# Altium schematic symbol library GC-Schlib1.SchLib: 38 symbols (part 1 of 2)
Pins are listed as number, name and electrical type; pins without a type are passive.

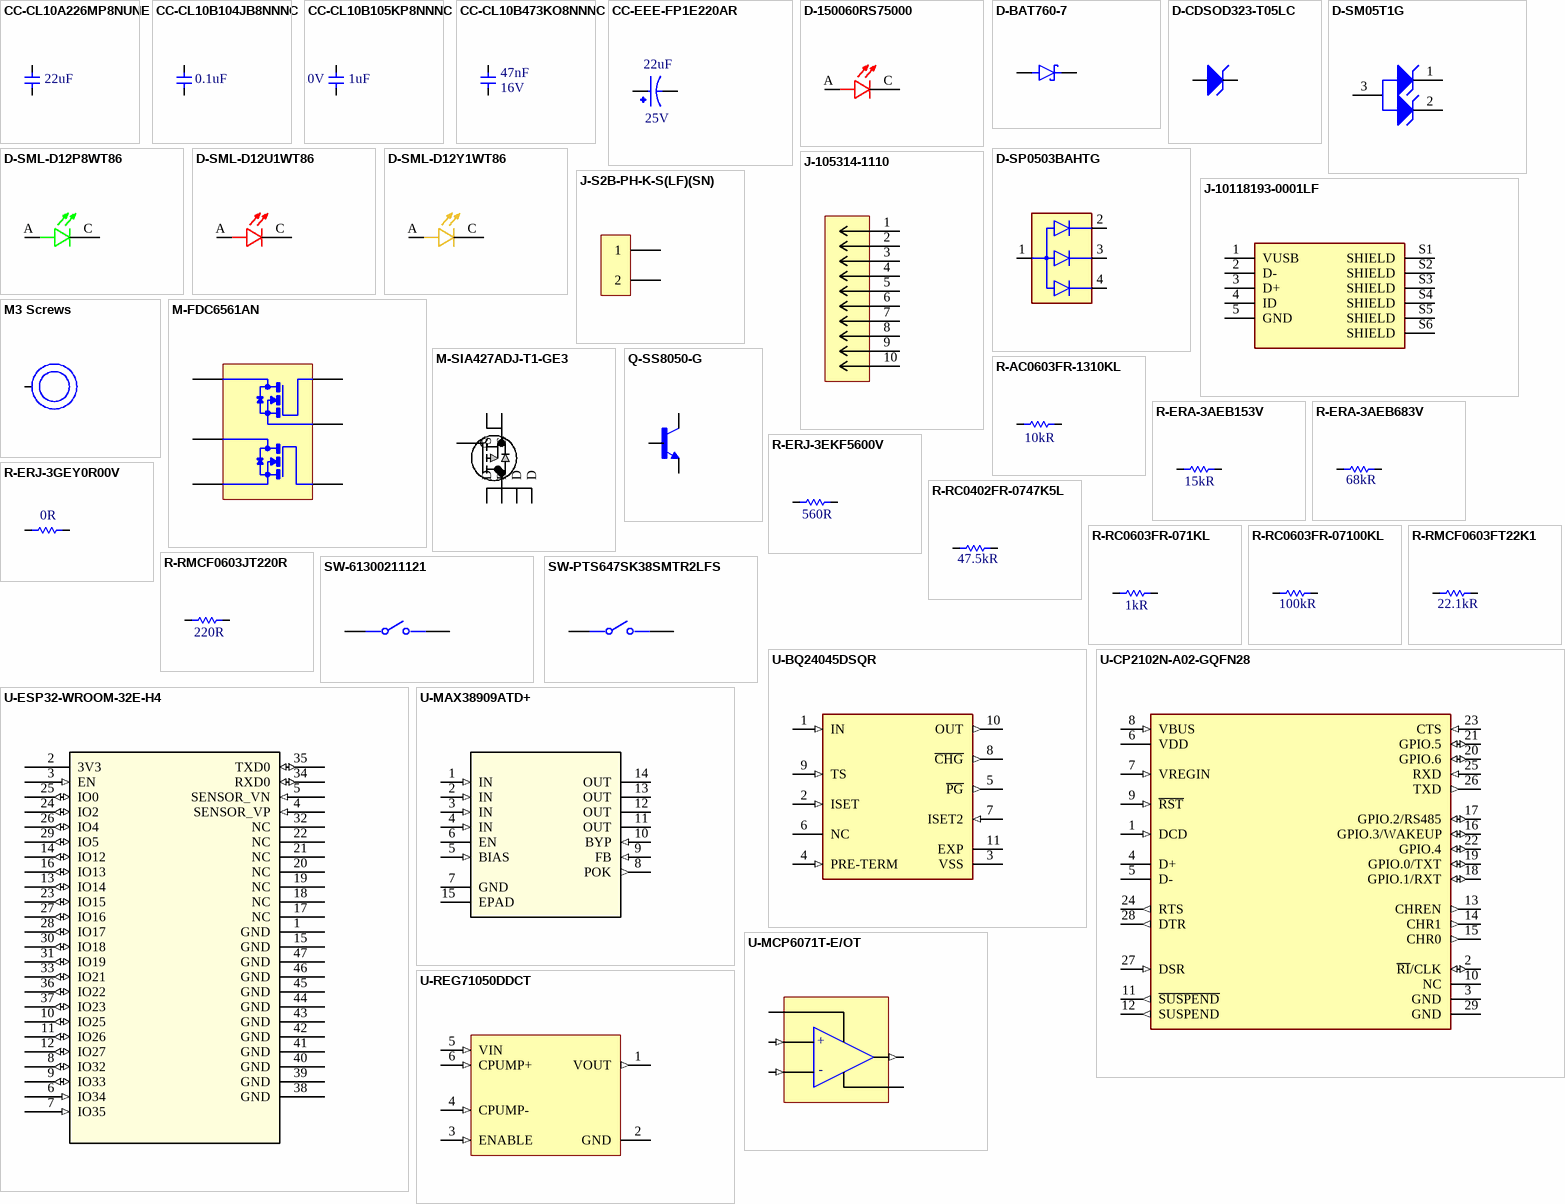
[diagram p0: symbols CC-CL10A226MP8NUNE to U-REG71050DDCT]

## CC-CL10A226MP8NUNE
designator C?, comment Capacitance: 22uF  (hidden comment: CL10A226MP8NUNE)
Ceramic Capacitor, Multilayer, Ceramic, 10V, 20% +Tol, 20% -Tol, X5R, 15% TC, 22uF, Surface Mount, 0603; Manufacturer: Samsung; Multilayer: Yes; Supplier 1: Avnet; Supplier Part Number 1: CL10A226MP8NUNE; Manufacturer Part Number: CL10A226MP8NUNE; RoHS: Yes; Category: Ceramic Capacitors; Stock: 4766000; Pricing: 3000=0.02125, 6000=0.02076, 12000=0.02027, 18000=0.01978, 24000=0.01929 (USD); Mount: Surface Mount; Number of Pins: 2; Dielectric Material: Ceramic; Package Shape: Rectangular; Size Code: 0603; Terminal Finish: Nickel; Min Operating Temperature: -55°C; Max Operating Temperature: 85°C; JESD-609 Code: e3; Capacitor Type: Ceramic; Negative Tolerance: 20%; Package Style: SMTMeter; Packaging: Tape and Reel; Positive Tolerance: 20%; Rated DC Voltage (URdc): 10V; Temperature Characteristics Code: X5R; Termination: Wraparound; Length: 1.6mm; Width: 0.8mm; Height: 1.05mm; Reach SVHC Compliant: Yes; RoHS Compliant: Yes; ComponentLink1URL: https://datasheet.ciiva.com:443/pdfs/VipMasterIC/IC/SEMS/SEMS-S-A0008525088/SEMS-S-A0008525102-1.pdf?src-supplier=IHS+Markit; ComponentLink1Description: https://datasheet.ciiva.com:443/pdfs/VipMasterIC/IC/SEMS/SEMS-S-A0008525088/SEMS-S-A0008525102-1.pdf?src-supplier=IHS+Markit; ComponentLink2URL: https://datasheet.ciiva.com/25711/cl10a226mp8nune-25711532.pdf?src-supplier=Digikey; ComponentLink2Description: https://datasheet.ciiva.com/25711/cl10a226mp8nune-25711532.pdf?src-supplier=Digikey; ComponentLink3URL: https://datasheet.ciiva.com/26838/getdatasheetpartid-746477-26838370.pdf?src-supplier=Verical; ComponentLink3Description: https://datasheet.ciiva.com/26838/getdatasheetpartid-746477-26838370.pdf?src-supplier=Verical
footprint FP-1206-L_3_2_0_15-W_1_6-IPC_B
footprint FP-1206-L_3_2_0_15-W_1_6-MFG
footprint FP-1206-L_3_2_0_15-W_1_6-IPC_A
footprint FP-1206-L_3_2_0_15-W_1_6-IPC_C
footprint 0603 - C
pins: 1, 2

## CC-CL10B104JB8NNNC
designator C?, comment Capacitance: 0.1uF  (hidden comment: CL10B104JB8NNNC)
Ceramic Capacitor, Multilayer, Ceramic, 50V, 5% +Tol, 5% -Tol, X7R, 15% TC, 0.1uF, Surface Mount, 0603; Manufacturer: Samsung; Multilayer: Yes; Supplier 1: Avnet; Supplier Part Number 1: CL10B104JB8NNNC; Manufacturer Part Number: CL10B104JB8NNNC; RoHS: Yes; Category: Ceramic Capacitors; Stock: 4000; Pricing: 4000=0.00545, 8000=0.00532, 16000=0.0052, 24000=0.00507, 32000=0.00495 (USD); Mount: Surface Mount; Number of Pins: 2; Dielectric Material: Ceramic; Package Shape: Rectangular; Size Code: 0603; Terminal Finish: Nickel; Min Operating Temperature: -55°C; Max Operating Temperature: 125°C; JESD-609 Code: e3; Capacitor Type: Ceramic; Negative Tolerance: 5%; Package Style: SMTMeter; Packaging: Tape and Reel; Positive Tolerance: 5%; Rated DC Voltage (URdc): 50V; Temperature Characteristics Code: X7R; Termination: Wraparound; Length: 1.6mm; Width: 0.8mm; Height: 0.8mm; Reach SVHC Compliant: Yes; RoHS Compliant: Yes; ComponentLink1URL: https://datasheet.ciiva.com:443/pdfs/VipMasterIC/IC/SEMS/SEMS-S-A0008384515/SEMS-S-A0008873313-1.pdf?src-supplier=IHS+Markit; ComponentLink1Description: https://datasheet.ciiva.com:443/pdfs/VipMasterIC/IC/SEMS/SEMS-S-A0008384515/SEMS-S-A0008873313-1.pdf?src-supplier=IHS+Markit; ComponentLink2URL: https://datasheet.ciiva.com/16498/cl10b104jb8nnnc-16498485.pdf?src-supplier=Future+Electronics; ComponentLink2Description: https://datasheet.ciiva.com/16498/cl10b104jb8nnnc-16498485.pdf?src-supplier=Future+Electronics; ComponentLink3URL: https://datasheet.ciiva.com/26838/getdatasheetpartid-359321-26838402.pdf?src-supplier=Verical; ComponentLink3Description: https://datasheet.ciiva.com/26838/getdatasheetpartid-359321-26838402.pdf?src-supplier=Verical; ComponentLink4URL: https://datasheet.ciiva.com/25793/cl10b104jb8nnnc-25793394.pdf?src-supplier=Digikey; ComponentLink4Description: https://datasheet.ciiva.com/25793/cl10b104jb8nnnc-25793394.pdf?src-supplier=Digikey; ComponentLink5URL: https://datasheet.ciiva.com/29199/456613-da-01-en-vs-kondensator-0603-29199008.pdf?src-supplier=Conrad; ComponentLink5Description: https://datasheet.ciiva.com/29199/456613-da-01-en-vs-kondensator-0603-29199008.pdf?src-supplier=Conrad
footprint 0603 - C
pins: 1, 2

## CC-CL10B105KP8NNNC
designator C?, comment Rated DC Voltage (URdc): 10V  Capacitance: 1uF  (hidden comment: CL10B105KP8NNNC)
Ceramic Capacitor, Multilayer, Ceramic, 10V, 10% +Tol, 10% -Tol, X7R, 15% TC, 1uF, Surface Mount, 0603; Manufacturer: Samsung; Multilayer: Yes; Supplier 1: Avnet; Supplier Part Number 1: CL10B105KP8NNNC; Manufacturer Part Number: CL10B105KP8NNNC; RoHS: Yes; Category: Ceramic Capacitors; Stock: 168000; Pricing: 4000=0.00532, 8000=0.0052, 16000=0.00508, 24000=0.00496, 32000=0.00484 (USD); Mount: Surface Mount; Number of Pins: 2; Dielectric Material: Ceramic; Package Shape: Rectangular; Size Code: 0603; Terminal Finish: Nickel; Min Operating Temperature: -55°C; Max Operating Temperature: 125°C; Termination: Wraparound; JESD-609 Code: e3; Capacitor Type: Ceramic; Negative Tolerance: 10%; Package Style: SMTMeter; Packaging: Tape and Reel; Positive Tolerance: 10%; Temperature Characteristics Code: X7R; Length: 1.6mm; Width: 0.8mm; Height: 0.9mm; Reach SVHC Compliant: Yes; RoHS Compliant: Yes; ComponentLink1URL: https://datasheet.ciiva.com:443/pdfs/VipMasterIC/IC/SEMS/SEMS-S-A0008526420/SEMS-S-A0008526450-1.pdf?src-supplier=IHS+Markit; ComponentLink1Description: https://datasheet.ciiva.com:443/pdfs/VipMasterIC/IC/SEMS/SEMS-S-A0008526420/SEMS-S-A0008526450-1.pdf?src-supplier=IHS+Markit; ComponentLink2URL: https://datasheet.ciiva.com/25788/cl10b105kp8nnnc-25788304.pdf?src-supplier=Digikey; ComponentLink2Description: https://datasheet.ciiva.com/25788/cl10b105kp8nnnc-25788304.pdf?src-supplier=Digikey; ComponentLink3URL: https://datasheet.ciiva.com/16396/cl10b105kp8nnnc-16396970.pdf?src-supplier=Future+Electronics; ComponentLink3Description: https://datasheet.ciiva.com/16396/cl10b105kp8nnnc-16396970.pdf?src-supplier=Future+Electronics; ComponentLink4URL: https://datasheet.ciiva.com/26838/getdatasheetpartid-358410-26838426.pdf?src-supplier=Verical; ComponentLink4Description: https://datasheet.ciiva.com/26838/getdatasheetpartid-358410-26838426.pdf?src-supplier=Verical
footprint FP-1206-L_3_2_0_15-W_1_6-IPC_B
footprint FP-1206-L_3_2_0_15-W_1_6-MFG
footprint FP-1206-L_3_2_0_15-W_1_6-IPC_A
footprint FP-1206-L_3_2_0_15-W_1_6-IPC_C
footprint 0603 - C
pins: 1, 2

## CC-CL10B473KO8NNNC
designator C?, comment Rated DC Voltage (URdc): 16V  Capacitance: 47nF  (hidden comment: CL10B473KO8NNNC)
Ceramic Capacitor, Multilayer, Ceramic, 16V, 10% +Tol, 10% -Tol, X7R, 15% TC, 0.047uF, Surface Mount, 0603; Manufacturer: Samsung; Multilayer: Yes; Supplier 1: Avnet; Supplier Part Number 1: CL10B473KO8NNNC; Manufacturer Part Number: CL10B473KO8NNNC; RoHS: Yes; Category: Ceramic Capacitors; Stock: 4000; Pricing: 4000=0.00536, 8000=0.00524, 16000=0.00511, 24000=0.00499, 32000=0.00487 (USD); Mount: Surface Mount; Number of Pins: 2; Dielectric Material: Ceramic; Package Shape: Rectangular; Size Code: 0603; Terminal Finish: Nickel; Min Operating Temperature: -55°C; Max Operating Temperature: 125°C; JESD-609 Code: e3; Capacitor Type: Ceramic; Negative Tolerance: 10%; Packaging: Tape and Reel; Positive Tolerance: 10%; Temperature Characteristics Code: X7R; Termination: Wraparound; Package Style: SMTMeter; Length: 1.6mm; Width: 0.8mm; Height: 0.8mm; Reach SVHC Compliant: Yes; RoHS Compliant: Yes; ComponentLink1URL: https://datasheet.ciiva.com:443/pdfs/VipMasterIC/IC/SEMS/SEMS-S-A0008521219/SEMS-S-A0008521235-1.pdf?src-supplier=IHS+Markit; ComponentLink1Description: https://datasheet.ciiva.com:443/pdfs/VipMasterIC/IC/SEMS/SEMS-S-A0008521219/SEMS-S-A0008521235-1.pdf?src-supplier=IHS+Markit; ComponentLink2URL: https://datasheet.ciiva.com/15195/getdatasheetpartid-354053-15195766.pdf?src-supplier=Verical; ComponentLink2Description: https://datasheet.ciiva.com/15195/getdatasheetpartid-354053-15195766.pdf?src-supplier=Verical
footprint FP-1206-L_3_2_0_15-W_1_6-IPC_B
footprint FP-1206-L_3_2_0_15-W_1_6-MFG
footprint FP-1206-L_3_2_0_15-W_1_6-IPC_A
footprint FP-1206-L_3_2_0_15-W_1_6-IPC_C
footprint 0603 - C
pins: 1, 2

## CC-EEE-FP1E220AR
designator C?, comment Rated DC Voltage (URdc): 25V  Capacitance: 22uF  (hidden comment: EEE-FP1E220AR)
Aluminum Electrolytic Capacitor, Polarized, Aluminum (wet), 25V, 20% +Tol, 20% -Tol, 22uF, Surface Mount, 2121; Manufacturer: Panasonic; Manufacturer Series: FP; Dielectric Material: Aluminium; ESR (Equivalent Series Resistance): 360mR; Leakage Current: 5.5uA; Ripple Current: 240mA; Tan Delta: 0.14; Supplier 1: Mouser; Supplier Part Number 1: 667-EEE-FP1E220AR; Manufacturer Part Number: EEE-FP1E220AR; RoHS: Yes; Category: Aluminum Electrolytic Capacitors; Stock: 28900; Pricing: 1=0.5, 10=0.271, 50=0.271, 100=0.175, 1000=0.134, 10000=0.114 (USD); Mount: Surface Mount; Number of Pins: 2; Package Shape: Cylindrical; Size Code: 2121; Terminal Finish: Tin; Min Operating Temperature: -55°C; Max Operating Temperature: 105°C; JESD-609 Code: e3,e6; Polarity: Polarized; Capacitor Type: Aluminium; Negative Tolerance: 20%; Package Style: SMTMeter; Packaging: Tape and Reel; Positive Tolerance: 20%; Series: EEE-FP(LF REFLOW); Termination: Flat; Length: 6.5mm; Width: 5.3mm; Height: 5.8mm; Reach SVHC Compliant: Yes; RoHS Compliant: Yes; ComponentLink1URL: https://datasheet.ciiva.com:443/pdfs/VipMasterIC/IC/PANA/PANA-S-A0009615249/PANA-S-A0009615249-1.pdf?src-supplier=IHS+Markit; ComponentLink1Description: https://datasheet.ciiva.com:443/pdfs/VipMasterIC/IC/PANA/PANA-S-A0009615249/PANA-S-A0009615249-1.pdf?src-supplier=IHS+Markit; ComponentLink2URL: https://datasheet.ciiva.com/48523/fp-eng-tds-48523749.pdf?src-supplier=Distrelec; ComponentLink2Description: https://datasheet.ciiva.com/48523/fp-eng-tds-48523749.pdf?src-supplier=Distrelec; ComponentLink3URL: https://datasheet.ciiva.com/16390/aba0000ce114-16390486.pdf?src-supplier=Future+Electronics; ComponentLink3Description: https://datasheet.ciiva.com/16390/aba0000ce114-16390486.pdf?src-supplier=Future+Electronics; ComponentLink4URL: https://datasheet.ciiva.com/15166/getdatasheetpartid-178535-15166251.pdf?src-supplier=Verical; ComponentLink4Description: https://datasheet.ciiva.com/15166/getdatasheetpartid-178535-15166251.pdf?src-supplier=Verical
footprint FP-1206-L_3_2_0_15-W_1_6-IPC_B
footprint FP-1206-L_3_2_0_15-W_1_6-MFG
footprint FP-1206-L_3_2_0_15-W_1_6-IPC_A
footprint FP-1206-L_3_2_0_15-W_1_6-IPC_C
footprint CC-25SVPF47M
pins: 1, 2

## D-150060RS75000
designator D?, comment 150060RS75000  (value not drawn)
Single Color LED, Red, Water Clear, 1.1mm; Manufacturer: Wurth Electronics; Shape: Rectangular; Forward Current-Max: 30mA; Luminous Intensity-Nom: 250mcd; Number of Functions: 1; Viewing Angle: 140°; Overall Height: 0.7mm; Supplier 1: Newark; Supplier Part Number 1: 95W3795; Manufacturer Part Number: 150060RS75000; RoHS: Yes; Category: LEDs; Stock: 32730; Pricing: 1=0.172, 10=0.168, 25=0.166, 50=0.163, 100=0.142 (USD); Mount: Surface Mount; Number of Pins: 2; Color: Red; Min Operating Temperature: -40°C; Max Operating Temperature: 85°C; Lens Style: WATER CLEAR; Optoelectronic Device Type: SINGLE COLOR LED; Packaging: Tape and Reel; Size: 1.1mm; Terminal Pitch: 1.6mm; Reach SVHC Compliant: Yes; RoHS Compliant: Yes; ComponentLink1URL: https://datasheet.ciiva.com:443/pdfs/VipMasterIC/IC/MIDC/MIDC-S-A0007768849/MIDC-S-A0007768849-1.pdf?src-supplier=IHS+Markit; ComponentLink1Description: https://datasheet.ciiva.com:443/pdfs/VipMasterIC/IC/MIDC/MIDC-S-A0007768849/MIDC-S-A0007768849-1.pdf?src-supplier=IHS+Markit; ComponentLink2URL: https://datasheet.ciiva.com/29563/150060rs75000-29563040.pdf?src-supplier=Digikey; ComponentLink2Description: https://datasheet.ciiva.com/29563/150060rs75000-29563040.pdf?src-supplier=Digikey; ComponentLink3URL: https://datasheet.ciiva.com/29279/759428-da-01-en-chipled-0603-w-kl-rot-150060rs75000-29279196.pdf?src-supplier=Conrad; ComponentLink3Description: https://datasheet.ciiva.com/29279/759428-da-01-en-chipled-0603-w-kl-rot-150060rs75000-29279196.pdf?src-supplier=Conrad
footprint FP-1206-L_3_2_0_15-W_1_6-IPC_B
footprint FP-1206-L_3_2_0_15-W_1_6-MFG
footprint FP-1206-L_3_2_0_15-W_1_6-IPC_A
footprint FP-1206-L_3_2_0_15-W_1_6-IPC_C
footprint 0603
pins: A, C

## D-BAT760-7
designator D?  (value not drawn)
Rectifier Diode, Schottky, 1 Phase, 1 Element, 1A, 30V V(RRM), Silicon; Manufacturer: Diodes; Package Body Material: Plastic; Additional Feature: HIGH RELIABILITY; Forward Voltage-Max (VF): 270mV; Non-rep Pk Forward Current-Max: 5.5A; Number of Elements: 1; Max Power Dissipation: 235mW; Time @ Peak Reflow Temperature-Max (s): 40s; Qualification Status: Not Qualified; Supplier 1: Future Electronics; Supplier Part Number 1: 4017860; Manufacturer Part Number: BAT760-7; RoHS: Yes; Category: Rectifier Diodes; Stock: 81000; Pricing: 3000=0.0527, 9000=0.0507, 15000=0.0498, 45000=0.048, 75000=0.0464 (USD); Number of Pins: 2; Package Shape: Rectangular; Diode Element Material: SILICON; Terminal Finish: Tin; Min Operating Temperature: -65°C; Max Operating Temperature: 125°C; JESD-30 Code: R-PDSO-G2; Package Style: SMALL OUTLINEMeter; Surface Mount: Yes; Technology: SCHOTTKY; Terminal Form: Gull Wing; Terminal Position: DUAL; JESD-609 Code: e3; Diode Type: RECTIFIER; Moisture Sensitivity Level: 1; Max Output Current: 1A; Peak Reflow Temperature (Cel): 260°C; Rep Pk Reverse Voltage-Max: 30V; Reach SVHC Compliant: Yes; RoHS Compliant: Yes; ComponentLink1URL: https://datasheet.ciiva.com:443/pdfs/VipMasterIC/IC/DIOD/DIOD-S-A0004140720/DIOD-S-A0004140720-1.pdf?src-supplier=IHS+Markit; ComponentLink1Description: https://datasheet.ciiva.com:443/pdfs/VipMasterIC/IC/DIOD/DIOD-S-A0004140720/DIOD-S-A0004140720-1.pdf?src-supplier=IHS+Markit; ComponentLink2URL: https://datasheet.ciiva.com/1178/ds30498-1178033.pdf?src-supplier=Element14; ComponentLink2Description: https://datasheet.ciiva.com/1178/ds30498-1178033.pdf?src-supplier=Element14; ComponentLink3URL: https://datasheet.ciiva.com/4715/ds30498-63155-4715521.pdf?src-supplier=Mouser; ComponentLink3Description: https://datasheet.ciiva.com/4715/ds30498-63155-4715521.pdf?src-supplier=Mouser; ComponentLink4URL: https://datasheet.ciiva.com/8301/ds30498-8301400.pdf?src-supplier=Avnet; ComponentLink4Description: https://datasheet.ciiva.com/8301/ds30498-8301400.pdf?src-supplier=Avnet; ComponentLink5URL: https://datasheet.ciiva.com/22695/1670989-22695799.pdf?src-supplier=Element14; ComponentLink5Description: https://datasheet.ciiva.com/22695/1670989-22695799.pdf?src-supplier=Element14; ComponentLink6URL: https://datasheet.ciiva.com/914/ds30498-914552.pdf?src-supplier=Digikey; ComponentLink6Description: https://datasheet.ciiva.com/914/ds30498-914552.pdf?src-supplier=Digikey; ComponentLink7URL: https://datasheet.ciiva.com/914/ds30498-914553.pdf?src-supplier=Digikey; ComponentLink7Description: https://datasheet.ciiva.com/914/ds30498-914553.pdf?src-supplier=Digikey; ComponentLink8URL: https://datasheet.ciiva.com/914/ds30498-914551.pdf?src-supplier=Digikey; ComponentLink8Description: https://datasheet.ciiva.com/914/ds30498-914551.pdf?src-supplier=Digikey
footprint FP-1206-L_3_2_0_15-W_1_6-IPC_B
footprint FP-1206-L_3_2_0_15-W_1_6-MFG
footprint FP-1206-L_3_2_0_15-W_1_6-IPC_A
footprint FP-1206-L_3_2_0_15-W_1_6-IPC_C
footprint SOD2513X120N
pins: A, C K

## D-CDSOD323-T05LC
designator D?, comment CDSOD323-T05LC
Trans Voltage Suppressor Diode, 250W, 5V V(RWM), Bidirectional, 2 Element, Silicon; Manufacturer: Bourns; Package Body Material: Plastic; Number of Elements: 2; Min Breakdown Voltage: 6V; Qualification Status: Not Qualified; Supplier 1: Avnet; Supplier Part Number 1: CDSOD323-T05LC; Manufacturer Part Number: CDSOD323-T05LC; RoHS: Yes; Category: TVS Diodes; Stock: 12000; Pricing: 3000=0.2698, 6000=0.2641, 12000=0.2584, 18000=0.2527, 24000=0.247, 30000=0.2413, 300000=0.2375 (USD); Number of Pins: 2; Diode Element Material: SILICON; Package Shape: Rectangular; Terminal Finish: Tin; Polarity: Bidirectional; Diode Type: TRANS VOLTAGE SUPPRESSOR; Package Style: SMALL OUTLINEMeter; Rep Pk Reverse Voltage-Max: 5V; Surface Mount: Yes; Technology: AVALANCHE; Terminal Form: Gull Wing; Terminal Position: DUAL; JESD-609 Code: e3; JESD-30 Code: R-PDSO-G2; Moisture Sensitivity Level: 1; Non-rep Peak Rev Power Dis-Max: 250W; Reach SVHC Compliant: Yes; RoHS Compliant: Yes; ComponentLink1URL: https://datasheet.ciiva.com:443/pdfs/VipMasterIC/IC/BOUR/BOUR-S-A0008993686/BOUR-S-A0008993686-1.pdf?src-supplier=IHS+Markit; ComponentLink1Description: https://datasheet.ciiva.com:443/pdfs/VipMasterIC/IC/BOUR/BOUR-S-A0008993686/BOUR-S-A0008993686-1.pdf?src-supplier=IHS+Markit; ComponentLink2URL: https://datasheet.ciiva.com/22695/1845295-22695042.pdf?src-supplier=Element14; ComponentLink2Description: https://datasheet.ciiva.com/22695/1845295-22695042.pdf?src-supplier=Element14; ComponentLink3URL: https://datasheet.ciiva.com/15186/getdatasheetpartid-697240-15186741.pdf?src-supplier=Verical; ComponentLink3Description: https://datasheet.ciiva.com/15186/getdatasheetpartid-697240-15186741.pdf?src-supplier=Verical; ComponentLink4URL: https://datasheet.ciiva.com/6578/cdsod323-txxlc-6578183.pdf?src-supplier=Digikey; ComponentLink4Description: https://datasheet.ciiva.com/6578/cdsod323-txxlc-6578183.pdf?src-supplier=Digikey; ComponentLink5URL: https://datasheet.ciiva.com/1276/1845295-1276679.pdf?src-supplier=Element14; ComponentLink5Description: https://datasheet.ciiva.com/1276/1845295-1276679.pdf?src-supplier=Element14; ComponentLink6URL: https://datasheet.ciiva.com/11193/cdsod323-txxlc-11193757.pdf?src-supplier=Avnet; ComponentLink6Description: https://datasheet.ciiva.com/11193/cdsod323-txxlc-11193757.pdf?src-supplier=Avnet; ComponentLink7URL: https://datasheet.ciiva.com/6578/cdsod323-txxlc-6578182.pdf?src-supplier=Digikey; ComponentLink7Description: https://datasheet.ciiva.com/6578/cdsod323-txxlc-6578182.pdf?src-supplier=Digikey; ComponentLink8URL: https://datasheet.ciiva.com/6578/cdsod323-txxlc-6578181.pdf?src-supplier=Digikey; ComponentLink8Description: https://datasheet.ciiva.com/6578/cdsod323-txxlc-6578181.pdf?src-supplier=Digikey; ComponentLink9URL: https://datasheet.ciiva.com/48686/001055445-da-01-en-tvs-diode-cdsod323-t05lc-sod323-bou-48686300.pdf?src-supplier=Conrad; ComponentLink9Description: https://datasheet.ciiva.com/48686/001055445-da-01-en-tvs-diode-cdsod323-t05lc-sod323-bou-48686300.pdf?src-supplier=Conrad
footprint FP-1206-L_3_2_0_15-W_1_6-IPC_B
footprint FP-1206-L_3_2_0_15-W_1_6-MFG
footprint FP-1206-L_3_2_0_15-W_1_6-IPC_A
footprint FP-1206-L_3_2_0_15-W_1_6-IPC_C
footprint SOD2513X120N
pins: A, C

## D-SM05T1G
designator D?, comment SM05T1G
Trans Voltage Suppressor Diode, 300W, 5V V(RWM), Unidirectional, 2 Element, Silicon, TO-236AB; Manufacturer: ON Semiconductor; Package Body Material: Plastic; Number of Elements: 2; Max Breakdown Voltage: 7.3V; Min Breakdown Voltage: 6.2V; Breakdown Voltage-Nom: 6.7V; Clamping Voltage-Max: 9.8V; Max Power Dissipation: 225mW; Time @ Peak Reflow Temperature-Max (s): 40s; Reference Standard: IEC-61000-4-2; Qualification Status: Not Qualified; Supplier 1: Future Electronics; Supplier Part Number 1: 4992673; Manufacturer Part Number: SM05T1G; RoHS: Yes; Category: ESD and Circuit Protection ICs; Stock: 120000; Pricing: 3000=0.0553, 9000=0.0532, 15000=0.0523, 45000=0.0503, 75000=0.0486 (USD); Number of Pins: 3; Package Shape: Rectangular; Terminal Finish: Tin; Diode Element Material: SILICON; Min Operating Temperature: -55°C; Max Operating Temperature: 150°C; JESD-609 Code: e3; JESD-30 Code: R-PDSO-G3; Moisture Sensitivity Level: 1; Package Style: SMALL OUTLINEMeter; Surface Mount: Yes; Terminal Form: Gull Wing; Terminal Position: DUAL; Polarity: Unidirectional; Diode Type: TRANS VOLTAGE SUPPRESSOR; Non-rep Peak Rev Power Dis-Max: 300W; Rep Pk Reverse Voltage-Max: 5V; Technology: AVALANCHE; Peak Reflow Temperature (Cel): 260°C; Reach SVHC Compliant: Yes; RoHS Compliant: Yes; JEDEC-95 Code: TO-236AB; ComponentLink1URL: https://datasheet.ciiva.com:443/pdfs/VipMasterIC/IC/ONSM/ONSM-S-A0006325830/ONSM-S-A0006325830-1.pdf?src-supplier=IHS+Markit; ComponentLink1Description: https://datasheet.ciiva.com:443/pdfs/VipMasterIC/IC/ONSM/ONSM-S-A0006325830/ONSM-S-A0006325830-1.pdf?src-supplier=IHS+Markit; ComponentLink2URL: https://datasheet.ciiva.com/11193/sm12t1-d-11193492.pdf?src-supplier=Avnet; ComponentLink2Description: https://datasheet.ciiva.com/11193/sm12t1-d-11193492.pdf?src-supplier=Avnet; ComponentLink3URL: https://datasheet.ciiva.com/4508/sm12t1-d-196357-4508787.pdf?src-supplier=Mouser; ComponentLink3Description: https://datasheet.ciiva.com/4508/sm12t1-d-196357-4508787.pdf?src-supplier=Mouser; ComponentLink4URL: https://datasheet.ciiva.com/15143/getdatasheetpartid-69008-15143230.pdf?src-supplier=Verical; ComponentLink4Description: https://datasheet.ciiva.com/15143/getdatasheetpartid-69008-15143230.pdf?src-supplier=Verical; ComponentLink5URL: https://datasheet.ciiva.com/22661/1708353-22661174.pdf?src-supplier=Element14; ComponentLink5Description: https://datasheet.ciiva.com/22661/1708353-22661174.pdf?src-supplier=Element14; ComponentLink6URL: https://datasheet.ciiva.com/16199/sm12t1-d-16199269.pdf?src-supplier=Future+Electronics; ComponentLink6Description: https://datasheet.ciiva.com/16199/sm12t1-d-16199269.pdf?src-supplier=Future+Electronics; ComponentLink7URL: https://datasheet.ciiva.com/11193/sm12t1-d-11193495.pdf?src-supplier=Avnet; ComponentLink7Description: https://datasheet.ciiva.com/11193/sm12t1-d-11193495.pdf?src-supplier=Avnet; ComponentLink8URL: https://datasheet.ciiva.com/339/sm05t1-d-339929.pdf?src-supplier=Digikey; ComponentLink8Description: https://datasheet.ciiva.com/339/sm05t1-d-339929.pdf?src-supplier=Digikey; ComponentLink9URL: https://datasheet.ciiva.com/339/sm05t1-d-339930.pdf?src-supplier=Digikey; ComponentLink9Description: https://datasheet.ciiva.com/339/sm05t1-d-339930.pdf?src-supplier=Digikey; ComponentLink10URL: https://datasheet.ciiva.com/339/sm05t1-d-339928.pdf?src-supplier=Digikey; ComponentLink10Description: https://datasheet.ciiva.com/339/sm05t1-d-339928.pdf?src-supplier=Digikey
footprint FP-1206-L_3_2_0_15-W_1_6-IPC_B
footprint FP-1206-L_3_2_0_15-W_1_6-MFG
footprint FP-1206-L_3_2_0_15-W_1_6-IPC_A
footprint FP-1206-L_3_2_0_15-W_1_6-IPC_C
footprint ONSC-SOT-23-3-318-08_V (SOT23, 3-Leads, Body 2.92x1.3mm, Pitch 0.95mm)
pins: 1 K1, 2 K2, 3 A

## D-SML-D12P8WT86
designator D?, comment SML-D12P8WT86  (value not drawn)
Single Color LED, Pure Green, Diffused Milky White, 1.2mm; Manufacturer: Rohm; Shape: Rectangular; Forward Current-Max: 20mA; Luminous Intensity-Nom: 6.3mcd; Number of Functions: 1; Reverse Voltage-Max: 5V; Overall Height: 0.55mm; Supplier 1: Mouser; Supplier Part Number 1: 755-SML-D12P8WT86; Manufacturer Part Number: SML-D12P8WT86; RoHS: Yes; Category: LEDs; Stock: 44852; Pricing: 1=0.24, 10=0.133, 50=0.133, 100=0.057, 1000=0.045, 10000=0.035 (USD); Mount: Surface Mount; Number of Pins: 2; Color: Green; Color@wavelength: Green; Terminal Finish: Gold; Min Operating Temperature: -40°C; Max Operating Temperature: 85°C; JESD-609 Code: e4; Lens Style: Diffused; Optoelectronic Device Type: SINGLE COLOR LED; Packaging: Tape and Reel; Size: 1.2mm; Terminal Pitch: 1.65mm; Reach SVHC Compliant: Yes; RoHS Compliant: Yes; ComponentLink1URL: https://datasheet.ciiva.com:443/pdfs/VipMasterIC/IC/ROHM/ROHMS10041/ROHMS10041-1.pdf?src-supplier=IHS+Markit; ComponentLink1Description: https://datasheet.ciiva.com:443/pdfs/VipMasterIC/IC/ROHM/ROHMS10041/ROHMS10041-1.pdf?src-supplier=IHS+Markit; ComponentLink2URL: https://datasheet.ciiva.com/2110/sml-d1-2110417.pdf?src-supplier=Digikey; ComponentLink2Description: https://datasheet.ciiva.com/2110/sml-d1-2110417.pdf?src-supplier=Digikey; ComponentLink3URL: https://datasheet.ciiva.com/16488/rohm20sml-d12p8wt86-16488100.pdf?src-supplier=Future+Electronics; ComponentLink3Description: https://datasheet.ciiva.com/16488/rohm20sml-d12p8wt86-16488100.pdf?src-supplier=Future+Electronics; ComponentLink4URL: https://datasheet.ciiva.com/2110/sml-d1-2110419.pdf?src-supplier=Digikey; ComponentLink4Description: https://datasheet.ciiva.com/2110/sml-d1-2110419.pdf?src-supplier=Digikey; ComponentLink5URL: https://datasheet.ciiva.com/3161/sml-d1-3161420.pdf?src-supplier=Avnet; ComponentLink5Description: https://datasheet.ciiva.com/3161/sml-d1-3161420.pdf?src-supplier=Avnet; ComponentLink6URL: https://datasheet.ciiva.com/2110/sml-d1-2110418.pdf?src-supplier=Digikey; ComponentLink6Description: https://datasheet.ciiva.com/2110/sml-d1-2110418.pdf?src-supplier=Digikey
footprint FP-1206-L_3_2_0_15-W_1_6-IPC_B
footprint FP-1206-L_3_2_0_15-W_1_6-MFG
footprint FP-1206-L_3_2_0_15-W_1_6-IPC_A
footprint FP-1206-L_3_2_0_15-W_1_6-IPC_C
footprint D-SML-D12U1WT86
pins: A, C

## D-SML-D12U1WT86
designator D?, comment SML-D12U1WT86  (value not drawn)
Single Color LED, Red, Milky White, 1.2mm; Manufacturer: Rohm; Shape: Rectangular; Forward Current-Max: 20mA; Luminous Intensity-Nom: 63mcd; Number of Functions: 1; Overall Height: 0.55mm; Supplier 1: Mouser; Supplier Part Number 1: 755-SML-D12U1WT86; Manufacturer Part Number: SML-D12U1WT86; RoHS: Yes; Category: LEDs; Stock: 135229; Pricing: 1=0.21, 10=0.11, 50=0.11, 100=0.059, 1000=0.059, 10000=0.05 (USD); Mount: Surface Mount; Number of Pins: 2; Color: Red; Min Operating Temperature: -40°C; Max Operating Temperature: 85°C; Lens Style: MILKY WHITE; Optoelectronic Device Type: SINGLE COLOR LED; Packaging: Tape and Reel; Size: 1.2mm; Terminal Pitch: 1.65mm; Reach SVHC Compliant: Yes; RoHS Compliant: Yes; ComponentLink1URL: https://datasheet.ciiva.com:443/pdfs/VipMasterIC/IC/ROHM/ROHM-S-A0002134492/ROHM-S-A0002134492-1.pdf?src-supplier=IHS+Markit; ComponentLink1Description: https://datasheet.ciiva.com:443/pdfs/VipMasterIC/IC/ROHM/ROHM-S-A0002134492/ROHM-S-A0002134492-1.pdf?src-supplier=IHS+Markit; ComponentLink2URL: https://www.rohm.com/datasheet/SML-D12U1W?src-supplier=Digikey; ComponentLink2Description: https://www.rohm.com/datasheet/SML-D12U1W?src-supplier=Digikey
footprint FP-1206-L_3_2_0_15-W_1_6-IPC_B
footprint FP-1206-L_3_2_0_15-W_1_6-MFG
footprint FP-1206-L_3_2_0_15-W_1_6-IPC_A
footprint FP-1206-L_3_2_0_15-W_1_6-IPC_C
footprint D-SML-D12U1WT86
pins: A, C

## D-SML-D12Y1WT86
designator D?, comment SML-D12Y1WT86  (value not drawn)
Single Color LED, Yellow, Milky White, 1.2mm; Manufacturer: Rohm; Shape: Rectangular; Forward Current-Max: 20mA; Luminous Intensity-Nom: 100mcd; Number of Functions: 1; Overall Height: 0.55mm; Supplier 1: Mouser; Supplier Part Number 1: 755-SML-D12Y1WT86; Manufacturer Part Number: SML-D12Y1WT86; RoHS: Yes; Category: LEDs; Stock: 42109; Pricing: 1=0.36, 10=0.192, 50=0.192, 100=0.085, 1000=0.066, 10000=0.044 (USD); Mount: Surface Mount; Number of Pins: 2; Color: Yellow; Min Operating Temperature: -40°C; Max Operating Temperature: 85°C; Lens Style: MILKY WHITE; Optoelectronic Device Type: SINGLE COLOR LED; Packaging: Tape and Reel; Size: 1.2mm; Terminal Pitch: 1.65mm; Reach SVHC Compliant: Yes; RoHS Compliant: Yes; ComponentLink1URL: https://datasheet.ciiva.com:443/pdfs/VipMasterIC/IC/ROHM/ROHM-S-A0006508755/ROHM-S-A0006508755-1.pdf?src-supplier=IHS+Markit; ComponentLink1Description: https://datasheet.ciiva.com:443/pdfs/VipMasterIC/IC/ROHM/ROHM-S-A0006508755/ROHM-S-A0006508755-1.pdf?src-supplier=IHS+Markit; ComponentLink2URL: https://www.rohm.com/datasheet/SML-D12Y1W?src-supplier=Digikey; ComponentLink2Description: https://www.rohm.com/datasheet/SML-D12Y1W?src-supplier=Digikey
footprint FP-1206-L_3_2_0_15-W_1_6-IPC_B
footprint FP-1206-L_3_2_0_15-W_1_6-MFG
footprint FP-1206-L_3_2_0_15-W_1_6-IPC_A
footprint FP-1206-L_3_2_0_15-W_1_6-IPC_C
footprint D-SML-D12U1WT86
pins: A, C

## D-SP0503BAHTG
designator D?, comment SP0503BAHTG
Trans Voltage Suppressor Diode, 5.5V V(RWM), Unidirectional, 3 Element, Silicon, TO-253AA; Manufacturer: Littelfuse; Package Body Material: Plastic; Clamping Voltage-Max: 6.8V; Number of Elements: 3; Max Power Dissipation: 225mW; Time @ Peak Reflow Temperature-Max (s): 30s; Qualification Status: Not Qualified; Supplier 1: Future Electronics; Supplier Part Number 1: 8638553; Manufacturer Part Number: SP0503BAHTG; RoHS: Yes; Category: TVS Diodes; Stock: 105000; Pricing: 3000=0.32, 6000=0.315, 9000=0.31, 12000=0.31, 15000=0.3 (USD); Number of Pins: 4; Diode Element Material: SILICON; Package Shape: Rectangular; Terminal Finish: Tin; JESD-609 Code: e3; Polarity: Unidirectional; Diode Type: TRANS VOLTAGE SUPPRESSOR; JESD-30 Code: R-PDSO-G4; Moisture Sensitivity Level: 1; Package Style: SMALL OUTLINEMeter; Peak Reflow Temperature (Cel): 260°C; Rep Pk Reverse Voltage-Max: 5.5V; Surface Mount: Yes; Technology: AVALANCHE; Terminal Form: Gull Wing; Terminal Position: DUAL; Reach SVHC Compliant: Yes; RoHS Compliant: Yes; ComponentLink1URL: https://datasheet.ciiva.com:443/pdfs/VipMasterIC/IC/LFSI/LFSI-S-A0009001026/LFSI-S-A0009001026-1.pdf?src-supplier=IHS+Markit; ComponentLink1Description: https://datasheet.ciiva.com:443/pdfs/VipMasterIC/IC/LFSI/LFSI-S-A0009001026/LFSI-S-A0009001026-1.pdf?src-supplier=IHS+Markit; ComponentLink2URL: https://datasheet.ciiva.com/15143/getdatasheetpartid-116020-15143550.pdf?src-supplier=Verical; ComponentLink2Description: https://datasheet.ciiva.com/15143/getdatasheetpartid-116020-15143550.pdf?src-supplier=Verical; ComponentLink3URL: https://datasheet.ciiva.com/7650/526672-7650894.pdf?src-supplier=Element14; ComponentLink3Description: https://datasheet.ciiva.com/7650/526672-7650894.pdf?src-supplier=Element14; ComponentLink4URL: https://datasheet.ciiva.com/8062/littefuse-spa-sp050x-8062422.pdf?src-supplier=Element14; ComponentLink4Description: https://datasheet.ciiva.com/8062/littefuse-spa-sp050x-8062422.pdf?src-supplier=Element14; ComponentLink5URL: https://datasheet.ciiva.com/22697/1911798-22697942.pdf?src-supplier=Element14; ComponentLink5Description: https://datasheet.ciiva.com/22697/1911798-22697942.pdf?src-supplier=Element14; ComponentLink6URL: https://datasheet.ciiva.com/4509/sp05x-leadfree-4509162.pdf?src-supplier=Mouser; ComponentLink6Description: https://datasheet.ciiva.com/4509/sp05x-leadfree-4509162.pdf?src-supplier=Mouser; ComponentLink7URL: https://datasheet.ciiva.com/332/sp05xxba-332551.pdf?src-supplier=Digikey; ComponentLink7Description: https://datasheet.ciiva.com/332/sp05xxba-332551.pdf?src-supplier=Digikey; ComponentLink8URL: https://datasheet.ciiva.com/332/sp05xxba-332552.pdf?src-supplier=Digikey; ComponentLink8Description: https://datasheet.ciiva.com/332/sp05xxba-332552.pdf?src-supplier=Digikey; ComponentLink9URL: https://datasheet.ciiva.com/332/sp05xxba-332550.pdf?src-supplier=Digikey; ComponentLink9Description: https://datasheet.ciiva.com/332/sp05xxba-332550.pdf?src-supplier=Digikey; ComponentLink10URL: https://datasheet.ciiva.com/16449/sp05xxba-16449463.pdf?src-supplier=Future+Electronics; ComponentLink10Description: https://datasheet.ciiva.com/16449/sp05xxba-16449463.pdf?src-supplier=Future+Electronics
footprint FP-1206-L_3_2_0_15-W_1_6-IPC_B
footprint FP-1206-L_3_2_0_15-W_1_6-MFG
footprint FP-1206-L_3_2_0_15-W_1_6-IPC_A
footprint FP-1206-L_3_2_0_15-W_1_6-IPC_C
footprint SOT143
pins: 1, 2, 3, 4

## J-105314-1110
designator J?, comment 105314-1110
Rectangular Power Connector, 10 Contact(s), Male, Solder Terminal; Manufacturer: Molex; Connector Type: Power,Rectangular; Supplier 1: Mouser; Supplier Part Number 1: 538-105314-1110; Manufacturer Part Number: 105314-1110; RoHS: Yes; Category: Headers and Wire Housings; Stock: 2000; Pricing: 1=2.31, 10=1.96, 50=1.96, 100=1.72, 1000=1.37, 10000=1.2 (USD); Reach SVHC Compliant: Yes; RoHS Compliant: Yes; ComponentLink1URL: https://www.molex.com:443/molex/products/datasheet.jsp?part=active%2f1053141110_PCB_HEADERS.xml&src-supplier=IHS+Markit; ComponentLink1Description: https://www.molex.com:443/molex/products/datasheet.jsp?part=active%2f1053141110_PCB_HEADERS.xml&src-supplier=IHS+Markit; ComponentLink2URL: https://www.molex.com/pdm_docs/ps/PS-105300-100-001.pdf?src-supplier=Digikey; ComponentLink2Description: https://www.molex.com/pdm_docs/ps/PS-105300-100-001.pdf?src-supplier=Digikey
footprint FP-1206-L_3_2_0_15-W_1_6-IPC_B
footprint FP-1206-L_3_2_0_15-W_1_6-MFG
footprint FP-1206-L_3_2_0_15-W_1_6-IPC_A
footprint FP-1206-L_3_2_0_15-W_1_6-IPC_C
footprint CON_1053141110
footprint temp
pins: 1, 2, 3, 4, 5, 6, 7, 8, 9, 10

## J-10118193-0001LF
designator J?, comment 10118193-0001LF
FCI Right Angle Surface Mount Mount Female USB Connector; 100 V ac; 1.8A; Manufacturer: Amphenol ICC / FCI; Supplier 1: Avnet; Supplier Part Number 1: 67T2259; Manufacturer Part Number: 10118193-0001LF; RoHS: No; Category: USB Connectors; Stock: 12269; Pricing: 1=0.466, 25=0.361, 100=0.326, 250=0.312, 500=0.299 (USD); ComponentLink1URL: http://uk.rs-online.com/webdocs/1450/0900766b814507f1.pdf?src-supplier=Rs; ComponentLink1Description: http://uk.rs-online.com/webdocs/1450/0900766b814507f1.pdf?src-supplier=Rs; ComponentLink2URL: https://cdn.amphenol-icc.com/media/wysiwyg/files/documentation/datasheet/inputoutput/io_usb_micro.pdf?src-supplier=Avnet; ComponentLink2Description: https://cdn.amphenol-icc.com/media/wysiwyg/files/documentation/datasheet/inputoutput/io_usb_micro.pdf?src-supplier=Avnet; ComponentLink3URL: https://cdn.amphenol-icc.com/media/wysiwyg/files/documentation/datasheet/inputoutput/io_usb_micro.pdf?src-supplier=Digikey; ComponentLink3Description: https://cdn.amphenol-icc.com/media/wysiwyg/files/documentation/datasheet/inputoutput/io_usb_micro.pdf?src-supplier=Digikey; ComponentLink4URL: https://datasheet.octopart.com/10118193-0001LF-Amphenol-Communications-Solutions-datasheet-96019471.pdf?src-supplier=Element14; ComponentLink4Description: https://datasheet.octopart.com/10118193-0001LF-Amphenol-Communications-Solutions-datasheet-96019471.pdf?src-supplier=Element14; ComponentLink5URL: https://cdn.amphenol-icc.com/media/wysiwyg/files/documentation/datasheet/inputoutput/io_usb_micro.pdf?src-supplier=Arrow+Electronics; ComponentLink5Description: https://cdn.amphenol-icc.com/media/wysiwyg/files/documentation/datasheet/inputoutput/io_usb_micro.pdf?src-supplier=Arrow+Electronics; ComponentLink6URL: https://cdn.amphenol-icc.com/media/wysiwyg/files/documentation/datasheet/inputoutput/io_usb_micro.pdf?src-supplier=Rs; ComponentLink6Description: https://cdn.amphenol-icc.com/media/wysiwyg/files/documentation/datasheet/inputoutput/io_usb_micro.pdf?src-supplier=Rs; ComponentLink7URL: https://cdn.amphenol-icc.com/media/wysiwyg/files/documentation/datasheet/inputoutput/io_usb_micro.pdf?src-supplier=Mouser; ComponentLink7Description: https://cdn.amphenol-icc.com/media/wysiwyg/files/documentation/datasheet/inputoutput/io_usb_micro.pdf?src-supplier=Mouser; ComponentLink8URL: https://cdn.amphenol-icc.com/media/wysiwyg/files/documentation/datasheet/inputoutput/io_usb_micro.pdf?src-supplier=Allied+Electronics; ComponentLink8Description: https://cdn.amphenol-icc.com/media/wysiwyg/files/documentation/datasheet/inputoutput/io_usb_micro.pdf?src-supplier=Allied+Electronics; ComponentLink9URL: http://www.amphenol-icc.com/media/wysiwyg/files/drawing/10118193.pdf?src-supplier=Digikey; ComponentLink9Description: http://www.amphenol-icc.com/media/wysiwyg/files/drawing/10118193.pdf?src-supplier=Digikey; ComponentLink10URL: https://cdn.amphenol-icc.com/media/wysiwyg/files/documentation/datasheet/inputoutput/io_usb_micro.pdf?src-supplier=Verical; ComponentLink10Description: https://cdn.amphenol-icc.com/media/wysiwyg/files/documentation/datasheet/inputoutput/io_usb_micro.pdf?src-supplier=Verical; ComponentLink11URL: https://cdn.amphenol-icc.com/media/wysiwyg/files/documentation/datasheet/inputoutput/io_usb_micro.pdf?src-supplier=Onlinecomponents.com; ComponentLink11Description: https://cdn.amphenol-icc.com/media/wysiwyg/files/documentation/datasheet/inputoutput/io_usb_micro.pdf?src-supplier=Onlinecomponents.com; ComponentLink12URL: https://datasheet.octopart.com/10118193-0001LF-Amphenol-Communications-Solutions-datasheet-55953155.pdf?src-supplier=TME; ComponentLink12Description: https://datasheet.octopart.com/10118193-0001LF-Amphenol-Communications-Solutions-datasheet-55953155.pdf?src-supplier=TME; ComponentLink13URL: https://cdn.amphenol-icc.com/media/wysiwyg/files/documentation/datasheet/inputoutput/io_usb_micro.pdf?src-supplier=TTI; ComponentLink13Description: https://cdn.amphenol-icc.com/media/wysiwyg/files/documentation/datasheet/inputoutput/io_usb_micro.pdf?src-supplier=TTI; ComponentLink14URL: https://datasheet.octopart.com/10118193-0001LF-Amphenol-Communications-Solutions-datasheet-11792339.pdf?src-supplier=Electro+Sonic; ComponentLink14Description: https://datasheet.octopart.com/10118193-0001LF-Amphenol-Communications-Solutions-datasheet-11792339.pdf?src-supplier=Electro+Sonic; ComponentLink15URL: https://cdn.amphenol-icc.com/media/wysiwyg/files/documentation/datasheet/inputoutput/io_usb_micro.pdf?src-supplier=Heilind+Electronics; ComponentLink15Description: https://cdn.amphenol-icc.com/media/wysiwyg/files/documentation/datasheet/inputoutput/io_usb_micro.pdf?src-supplier=Heilind+Electronics
footprint FP-1206-L_3_2_0_15-W_1_6-IPC_B
footprint FP-1206-L_3_2_0_15-W_1_6-MFG
footprint FP-1206-L_3_2_0_15-W_1_6-IPC_A
footprint FP-1206-L_3_2_0_15-W_1_6-IPC_C
footprint AMPHENOL_10118193-0001LF
pins: 1 VUSB, 2 D-, 3 D+, 4 ID, 5 GND, S1 SHIELD, S2 SHIELD, S3 SHIELD, S4 SHIELD, S5 SHIELD, S6 SHIELD

## J-S2B-PH-K-S(LF)(SN)
designator J?, comment S2B-PH-K-S
Header for PCB; pitch 2.00mm; 2-contacts; THT; male; side entry; 100V/2A; Manufacturer: JST; Manufacturer Part Number: S2B-PH-K-S(LF)(SN); Supplier 1: Arrow Electronics; Supplier Part Number 1: S2B-PH-K-S(LF)(SN); RoHS: Yes; Category: Headers and Wire Housings; Stock: 48365; Pricing: 1=0.1318, 10=0.1056, 25=0.1046, 50=0.1034, 100=0.0672, 1000=0.0499 (USD); ComponentLink1URL: https://datasheet.ciiva.com/11747/0900766b8082f558-11747128.pdf?src-supplier=Rs; ComponentLink1Description: https://datasheet.ciiva.com/11747/0900766b8082f558-11747128.pdf?src-supplier=Rs; ComponentLink2URL: https://datasheet.ciiva.com/712/eph-712447.pdf?src-supplier=Digikey; ComponentLink2Description: https://datasheet.ciiva.com/712/eph-712447.pdf?src-supplier=Digikey; ComponentLink3URL: https://datasheet.ciiva.com/16484/s2b-ph-k-slfsn-16484405.pdf?src-supplier=Future+Electronics; ComponentLink3Description: https://datasheet.ciiva.com/16484/s2b-ph-k-slfsn-16484405.pdf?src-supplier=Future+Electronics; ComponentLink4URL: https://datasheet.ciiva.com/8052/80564-8052207.pdf?src-supplier=Element14; ComponentLink4Description: https://datasheet.ciiva.com/8052/80564-8052207.pdf?src-supplier=Element14; ComponentLink5URL: https://datasheet.ciiva.com/26894/getdatasheetpartid-641020-26894599.pdf?src-supplier=Verical; ComponentLink5Description: https://datasheet.ciiva.com/26894/getdatasheetpartid-641020-26894599.pdf?src-supplier=Verical
footprint FP-1206-L_3_2_0_15-W_1_6-IPC_B
footprint FP-1206-L_3_2_0_15-W_1_6-MFG
footprint FP-1206-L_3_2_0_15-W_1_6-IPC_A
footprint FP-1206-L_3_2_0_15-W_1_6-IPC_C
footprint JST_S2B-PH-K-S(LF)(SN)
pins: 1, 2

## M3 Screws
designator MH?  (value not drawn)
footprint FP-1206-L_3_2_0_15-W_1_6-IPC_B
footprint FP-1206-L_3_2_0_15-W_1_6-MFG
footprint FP-1206-L_3_2_0_15-W_1_6-IPC_A
footprint FP-1206-L_3_2_0_15-W_1_6-IPC_C
footprint M3 Screws
pins: 1

## M-FDC6561AN
designator M?, comment FDC6561AN
Small Signal Field-Effect Transistor, 2.5A I(D), 30V, 2-Element, N-Channel, Silicon, Metal-oxide Semiconductor FET; Manufacturer: ON Semiconductor / Fairchild; Package Body Material: Plastic; Drain-source On Resistance-Max: 95mR; Number of Elements: 2; Operating Mode: ENHANCEMENT MODE; Power Dissipation-Max (Abs): 960mW; Transistor Application: SWITCHING; Qualification Status: Not Qualified; Supplier 1: Future Electronics; Supplier Part Number 1: 1119379; Manufacturer Part Number: FDC6561AN; RoHS: Yes; Category: MOSFETs; Stock: 60000; Pricing: 3000=0.215, 6000=0.21, 9000=0.205, 12000=0.205, 15000=0.2 (USD); Number of Pins: 6; Package Shape: Rectangular; Transistor Element Material: SILICON; Max Operating Temperature: 150°C; Package Style: SMALL OUTLINEMeter; Surface Mount: Yes; Polarity/Channel Type: N-CHANNEL; Drain Current-Max (ID): 2.5A; DS Breakdown Voltage-Min: 30V; FET Technology: METAL-OXIDE SEMICONDUCTOR; JESD-30 Code: R-PDSO-G6; Moisture Sensitivity Level: 1; Terminal Form: Gull Wing; Terminal Position: DUAL; Drain Current-Max (Abs) (ID): 2.5A; Reach SVHC Compliant: Yes; RoHS Compliant: Yes; ComponentLink1URL: https://datasheet.ciiva.com:443/pdfs/VipMasterIC/IC/ONSM/ONSM-S-A0003579719/ONSM-S-A0003579719-1.pdf?src-supplier=IHS+Markit; ComponentLink1Description: https://datasheet.ciiva.com:443/pdfs/VipMasterIC/IC/ONSM/ONSM-S-A0003579719/ONSM-S-A0003579719-1.pdf?src-supplier=IHS+Markit; ComponentLink2URL: https://datasheet.ciiva.com/1252/11844-1252600.pdf?src-supplier=Newark; ComponentLink2Description: https://datasheet.ciiva.com/1252/11844-1252600.pdf?src-supplier=Newark; ComponentLink3URL: https://datasheet.ciiva.com/928/fdc6561an-928038.pdf?src-supplier=Digikey; ComponentLink3Description: https://datasheet.ciiva.com/928/fdc6561an-928038.pdf?src-supplier=Digikey; ComponentLink4URL: https://datasheet.ciiva.com/928/fdc6561an-928039.pdf?src-supplier=Digikey; ComponentLink4Description: https://datasheet.ciiva.com/928/fdc6561an-928039.pdf?src-supplier=Digikey; ComponentLink5URL: https://datasheet.ciiva.com/928/fdc6561an-928040.pdf?src-supplier=Digikey; ComponentLink5Description: https://datasheet.ciiva.com/928/fdc6561an-928040.pdf?src-supplier=Digikey; ComponentLink6URL: https://datasheet.ciiva.com/8114/fdc6561an-8114955.pdf?src-supplier=Avnet; ComponentLink6Description: https://datasheet.ciiva.com/8114/fdc6561an-8114955.pdf?src-supplier=Avnet; ComponentLink7URL: https://datasheet.ciiva.com/22655/11844-22655279.pdf?src-supplier=Element14; ComponentLink7Description: https://datasheet.ciiva.com/22655/11844-22655279.pdf?src-supplier=Element14; ComponentLink8URL: https://datasheet.ciiva.com/22681/11844-22681868.pdf?src-supplier=Element14; ComponentLink8Description: https://datasheet.ciiva.com/22681/11844-22681868.pdf?src-supplier=Element14; ComponentLink9URL: https://datasheet.ciiva.com/22681/11844-22681869.pdf?src-supplier=Element14; ComponentLink9Description: https://datasheet.ciiva.com/22681/11844-22681869.pdf?src-supplier=Element14
footprint FP-1206-L_3_2_0_15-W_1_6-IPC_B
footprint FP-1206-L_3_2_0_15-W_1_6-MFG
footprint FP-1206-L_3_2_0_15-W_1_6-IPC_A
footprint FP-1206-L_3_2_0_15-W_1_6-IPC_C
footprint SSOT-6
footprint SOT95P280X110-6N
pins: 1 G1, 2 S2, 3 G2, 4 D2, 5 S1, 6 D1

## M-SIA427ADJ-T1-GE3
designator M?, comment SIA427ADJ-T1-GE3  (value not drawn)
Power Field-Effect Transistor, 12A I(D), 8V, 0.016ohm, 1-Element, P-Channel, Silicon, Metal-oxide Semiconductor FET; Manufacturer: Vishay Siliconix; Power Dissipation-Max (Abs): 19W; Supplier 1: Mouser; Supplier Part Number 1: 78-SIA427ADJ-T1-GE3; Manufacturer Part Number: SIA427ADJ-T1-GE3; RoHS: Yes; Category: MOSFETs; Stock: 63429; Pricing: 1=0.53, 10=0.455, 50=0.455, 100=0.34, 1000=0.207, 10000=0.158 (USD); Terminal Finish: Tin; Max Operating Temperature: 150°C; JESD-609 Code: e3; Polarity/Channel Type: P-CHANNEL; Drain Current-Max (Abs) (ID): 12A; FET Technology: METAL-OXIDE SEMICONDUCTOR; Surface Mount: Yes; Reach SVHC Compliant: Yes; RoHS Compliant: Yes; ComponentLink1URL: https://datasheet.ciiva.com:443/pdfs/VipMasterIC/IC/VISH/VISH-S-A0001142626/VISH-S-A0001142626-1.pdf?src-supplier=IHS+Markit; ComponentLink1Description: https://datasheet.ciiva.com:443/pdfs/VipMasterIC/IC/VISH/VISH-S-A0001142626/VISH-S-A0001142626-1.pdf?src-supplier=IHS+Markit; ComponentLink2URL: http://www.farnell.com/datasheets/2614535.pdf?src-supplier=Farnell; ComponentLink2Description: http://www.farnell.com/datasheets/2614535.pdf?src-supplier=Farnell; ComponentLink3URL: http://www.mouser.com/ds/2/427/sia427adj-537173.pdf?src-supplier=Mouser; ComponentLink3Description: http://www.mouser.com/ds/2/427/sia427adj-537173.pdf?src-supplier=Mouser; ComponentLink4URL: http://www.vishay.com/docs/63651/sia427adj.pdf?src-supplier=Digikey; ComponentLink4Description: http://www.vishay.com/docs/63651/sia427adj.pdf?src-supplier=Digikey; ComponentLink5URL: http://www.vishay.com/docs/63651/sia427adj.pdf?src-supplier=Avnet; ComponentLink5Description: http://www.vishay.com/docs/63651/sia427adj.pdf?src-supplier=Avnet; ComponentLink6URL: http://www.farnell.com/datasheets/2614535.pdf?src-supplier=Element14; ComponentLink6Description: http://www.farnell.com/datasheets/2614535.pdf?src-supplier=Element14; ComponentLink7URL: http://www.farnell.com/datasheets/2614535.pdf?src-supplier=Newark; ComponentLink7Description: http://www.farnell.com/datasheets/2614535.pdf?src-supplier=Newark
footprint FP-1206-L_3_2_0_15-W_1_6-IPC_B
footprint FP-1206-L_3_2_0_15-W_1_6-MFG
footprint FP-1206-L_3_2_0_15-W_1_6-IPC_A
footprint FP-1206-L_3_2_0_15-W_1_6-IPC_C
footprint SON_1DJ-T1-GE3_VIS
pins: 1 D, 2 D, 3 G, 4 S, 5 D, 6 D, 7 S

## Q-SS8050-G
designator Q?, comment SS8050-G  (value not drawn)
Small Signal Bipolar Transistor, 1.5A I(C), 25V V(BR)CEO, 1-Element, NPN, Silicon; Manufacturer: Comchip; Supplier 1: Digikey; Supplier Part Number 1: 641-1790-1-ND; Manufacturer Part Number: SS8050-G; RoHS: Yes; Category: Transistors; Stock: 178560; Pricing: 1=0.29, 10=0.2, 100=0.0978, 500=0.08154, 1000=0.05666 (USD); Reach SVHC Compliant: Yes; RoHS Compliant: Yes; ComponentLink1URL: https://datasheet.ciiva.com:443/pdfs/VipMasterIC/IC/COMC/COMC-S-A0004994192/COMC-S-A0004994192-1.pdf?src-supplier=IHS+Markit; ComponentLink1Description: https://datasheet.ciiva.com:443/pdfs/VipMasterIC/IC/COMC/COMC-S-A0004994192/COMC-S-A0004994192-1.pdf?src-supplier=IHS+Markit; ComponentLink2URL: http://www.comchiptech.com/admin/files/product/SS8050-G RevA181526.pdf?src-supplier=Digikey; ComponentLink2Description: http://www.comchiptech.com/admin/files/product/SS8050-G RevA181526.pdf?src-supplier=Digikey
footprint FP-1206-L_3_2_0_15-W_1_6-IPC_B
footprint FP-1206-L_3_2_0_15-W_1_6-MFG
footprint FP-1206-L_3_2_0_15-W_1_6-IPC_A
footprint FP-1206-L_3_2_0_15-W_1_6-IPC_C
footprint TRANS_SS8050-G
pins: 1 B, 2 E, 3 C

## R-AC0603FR-1310KL
designator R?, comment Resistance: 10kR  (hidden comment: AC0603FR-1310KL)
Fixed Resistor, Metal Glaze/thick Film, 0.1W, 10000ohm, 75V, 1% +/-Tol, 100ppm/Cel, Surface Mount, 0603; Manufacturer: Yageo; Additional Feature: LASER TRIMMABLE; Rated Power Dissipation (P): 100mW; Rated Temperature: 70°C; Temperature Coefficient: 100ppm/°C; Package Height: 0.45mm; Package Length: 1.6mm; Package Width: 0.8mm; Reference Standard: AEC-Q200; Supplier 1: Avnet; Supplier Part Number 1: AC0603FR-1310KL; Manufacturer Part Number: AC0603FR-1310KL; RoHS: Yes; Category: Chip SMD Resistors; Stock: 60000; Pricing: 20000=0.00167 (USD); Mount: Surface Mount; Number of Pins: 2; Package Shape: Rectangular; Size Code: 0603; Terminal Finish: Nickel; Min Operating Temperature: -55°C; Max Operating Temperature: 155°C; Tolerance: 1%; JESD-609 Code: e3; Resistor Type: FIXED RESISTOR; Construction: Chip; Package Style: SMTMeter; Packaging: Tape and Reel; Technology: METAL GLAZE/THICK FILM; Termination: Wraparound; Working Voltage: 75V; Reach SVHC Compliant: Yes; RoHS Compliant: Yes; ComponentLink1URL: https://datasheet.ciiva.com:443/pdfs/VipMasterIC/IC/YAGO/YAGO-S-A0003597364/YAGO-S-A0003597364-1.pdf?src-supplier=IHS+Markit; ComponentLink1Description: https://datasheet.ciiva.com:443/pdfs/VipMasterIC/IC/YAGO/YAGO-S-A0003597364/YAGO-S-A0003597364-1.pdf?src-supplier=IHS+Markit; ComponentLink2URL: https://datasheet.octopart.com/AC0603FR-1310KL-Yageo-datasheet-166720450.pdf?src-supplier=Future+Electronics; ComponentLink2Description: https://datasheet.octopart.com/AC0603FR-1310KL-Yageo-datasheet-166720450.pdf?src-supplier=Future+Electronics
footprint FP-1206-L_3_2_0_15-W_1_6-IPC_B
footprint FP-1206-L_3_2_0_15-W_1_6-MFG
footprint FP-1206-L_3_2_0_15-W_1_6-IPC_A
footprint FP-1206-L_3_2_0_15-W_1_6-IPC_C
footprint 0603 - R
pins: 1, 2